# EAGLE library part DRV2605LDGSR (library lcd-buzzer)
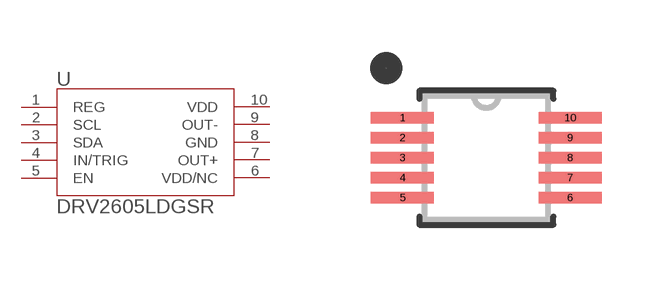
[diagram p2: symbol with the pads of DGS10; footprint DGS10]

Designator prefix U

## DRV2605LDGSR (MANUFACTURER_PART_NUMBER: DRV2605LDGSR; VENDOR: Texas Instruments)  [DGS10]
1  REG
2  SCL  in
3  SDA
4  IN/TRIG  in
5  EN  in
6  VDD/NC
7  OUT+
8  GND
9  OUT-
10  VDD

## Footprint DGS10 (pad centres in mm)
smd 1.575 x 0.279: 1 -2.095,1; 2 -2.095,0.5; 3 -2.095,0; 4 -2.095,-0.5; 5 -2.095,-1; 6 2.095,-1; 7 2.095,-0.5; 8 2.095,0; 9 2.095,0.5; 10 2.095,1